# Altium schematic symbol library SnapEDAsch.SchLib: 1 symbol
Pins are listed as number, name and electrical type; pins without a type are passive.

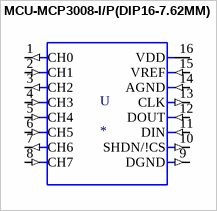
[diagram p0: symbol MCU-MCP3008-I/P(DIP16-7.62MM)]

## MCU-MCP3008-I/P(DIP16-7.62MM)
designator U
10 Bit Analog to Digital Converter 4, 8 Input 1 SAR 16-PDIP; MF: Microchip; MP: MCP3008-I/P; Package: DIP-16 Microchip; Value: *; Availability: Unavailable; SnapEDA_Link: https://www.snapeda.com/parts/MCP3008-I/P/Microchip/view-part/43628/?ref=snap; Price: None
footprint DIP16-2.54-19.2X7.62MM
pins: 1 CH0 (out), 2 CH1 (in), 3 CH2 (out), 4 CH3 (in), 5 CH4 (in), 6 CH5 (in), 7 CH6 (out), 8 CH7 (in), 9 DGND (out), 10 SHDN/!CS (out), 11 DIN (in), 12 DOUT (in), 13 CLK (out), 14 AGND (in), 15 VREF (in), 16 VDD (power)